# Altium footprint library LibreriaComp.PcbLib: 43 footprints (part 3 of 3)
Each footprint in its own frame and in the unit in brackets; x right, y up, seen from the top. Pads: shape width x height; smd on the part's side, far side on the other; paste and mask are expansions set on the pad; w line width, h text height; cw(c..) or ccw(c..) is an arc to the next point about the centre after c.
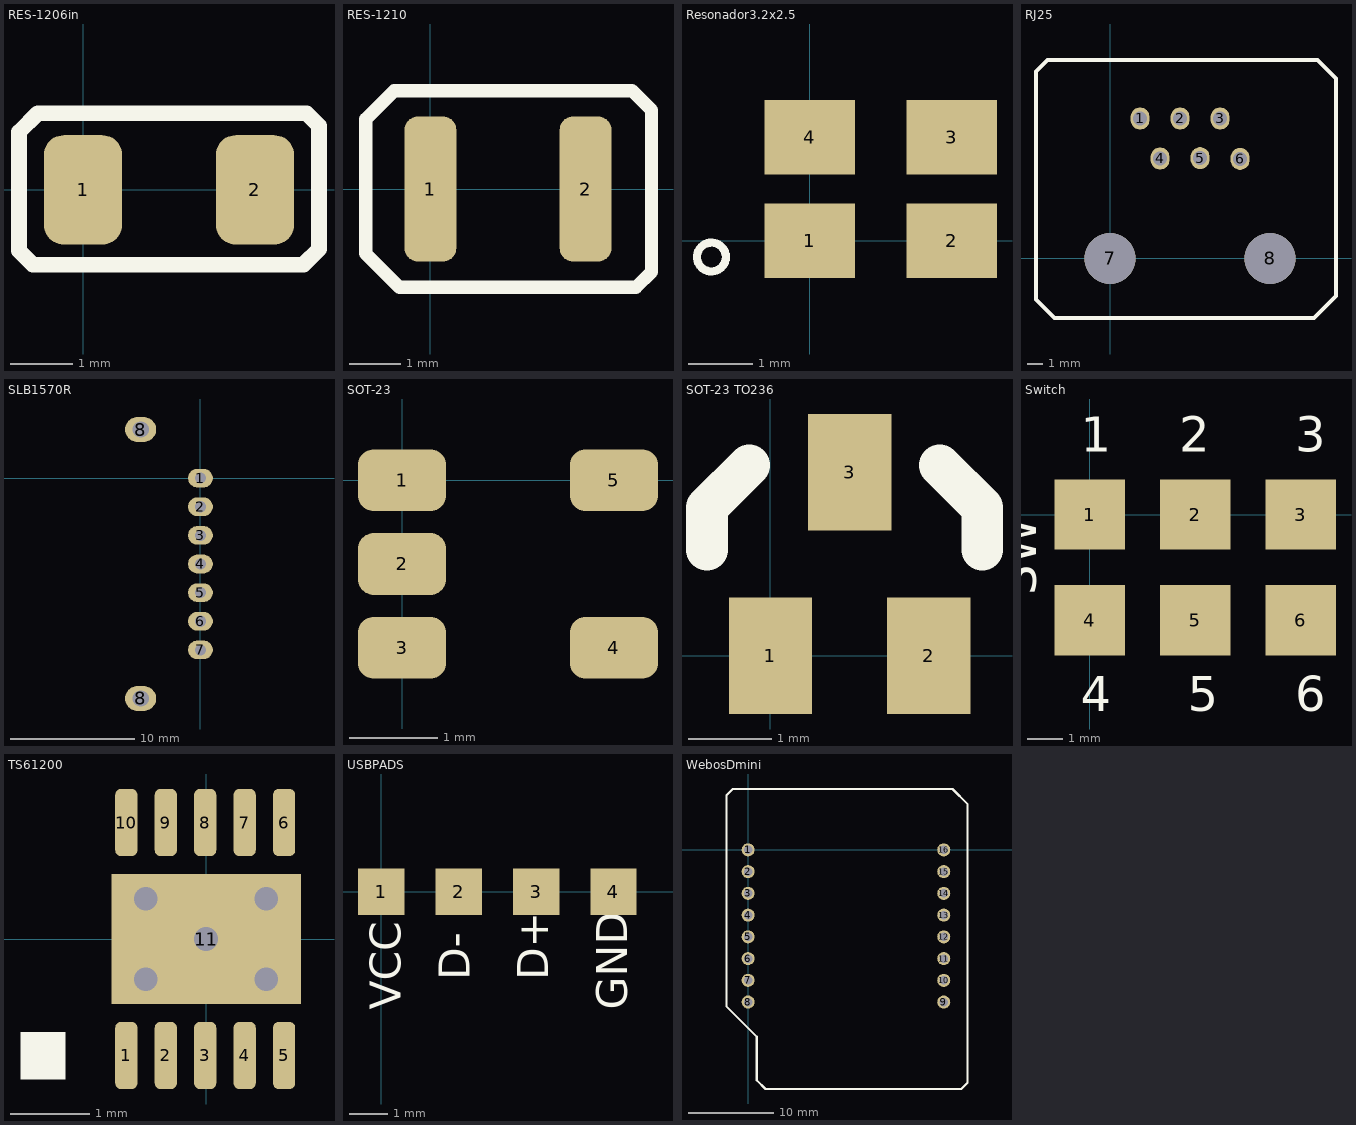
[diagram p2: the footprints below, top view; thin cyan lines are the x and y axes]

## RES-1206in [mm]
pads (2):
  rrect50% 1.25x1.75 smd: 1(0,0) 2(2.75,0)
Top Overlay:
  lines w0.254: 2.85,-1.2 3.525,-1.2 3.775,-0.95 3.775,1.025 3.575,1.225 3.175,1.225 -0.725,1.225 -1.025,0.925 -1.025,-0.975 -0.8,-1.2 2.975,-1.2

## RES-1210 [mm]
pads (2):
  rrect50% 1x2.8 smd: 1(0,0) 2(3,0)
Top Overlay:
  lines w0.254: -1.25,-1.25 -1.25,1.35 -0.7,1.9 3.9,1.9 4.275,1.525 4.275,-1.6 3.975,-1.9 3.3,-1.9 2.275,-1.9 -0.6,-1.9 -1.25,-1.25

## Resonador3.2x2.5 [mm]
pads (4):
  rect 1.4x1.15 smd: 1(0,0) 2(2.2,0) 3(2.2,1.6) 4(0,1.6)
Top Overlay:
  circle w0.127: c-1.524,-0.254 r0.224

## RJ25 [mm]
pads (8):
  oval 1.2x1.4 hole 0.89: 1(1.91,8.89) 2(4.45,8.89) 3(6.99,8.89) 4(3.18,6.35) 5(5.72,6.375) 6(8.26,6.325)
  round 3.25 hole 3.25: 7(0,0) 8(10.16,0)
Top Overlay:
  lines w0.254: -4.7,-2.6 -4.7,11.875 -3.975,12.6 13.175,12.6 14.35,11.425 14.35,-2.375 13.85,-2.875 12.95,-3.775 -3.525,-3.775 -4.7,-2.6

## SLB1570R [mm] "3Pines"
pads (9):
  oval 2x1.5 hole 0.9: 1(0,0) 2(0,-2.3) 3(0,-4.6) 4(0,-6.9) 5(0,-9.2) 6(0,-11.5) 7(0,-13.8)
  oval 2.5x2 hole 1.3: 8(-4.8,-17.7) 8(-4.8,3.9)

## SOT-23 [mm]
pads (5):
  rrect50% 1x0.7 smd: 1(0,0) 2(0,-0.95) 3(0,-1.9) 4(2.4,-1.9) 5(2.4,0)

## SOT-23 TO236 [mm]
pads (3):
  rect 1x1.4 smd: 1(0,0) 2(1.9,0) 3(0.95,2.2)
Top Overlay:
  lines w0.5: -0.762,1.27 -0.762,1.778 -0.254,2.286 ; 2.032,2.286 2.54,1.778 2.54,1.27

## Switch [mm]
pads (6):
  rect 2x2 smd: 1(0,0) 2(3,0) 3(6,0) 4(0,-3) 5(3,-3) 6(6,-3)
Top Overlay:
  text "1" at -0.254,1.778 h1
  text "2" at 2.54,1.778 h1
  text "3" at 5.842,1.778 h1
  text "4" at -0.254,-5.588 h1
  text "5" at 2.794,-5.588 h1
  text "6" at 5.842,-5.588 h1
  text "SW" at -1.524,-2.286 h1

## TS61200 [mm]
pads (11):
  rrect50% 0.28x0.85 smd: 1(-1.01,-1.475) 2(-0.51,-1.475) 3(-0.01,-1.475) 4(0.49,-1.475) 5(0.99,-1.475) 6(0.99,1.475) 7(0.49,1.475) 8(-0.01,1.475) 9(-0.51,1.475) 10(-1.01,1.475)
  rect 2.4x1.65 smd: 11(0,0)
via -0.762,-0.508 diameter 0.3 hole 0.3
via -0.762,0.508 diameter 0.3 hole 0.3
via 0.762,0.508 diameter 0.3 hole 0.3
via 0.762,-0.508 diameter 0.3 hole 0.3
via 0,0 diameter 0.3 hole 0.3
Top Overlay:
  rectangle: -2.353,-1.778 -1.778,-1.178

## USBPADS [mm]
pads (4):
  rect 1.2x1.2 smd: 1(0,0) 2(2,0) 3(4,0) 4(6,0)
Top Overlay:
  text "GND" at 6.35,-3.048 h0.8
  text "D+" at 4.318,-2.286 h0.8
  text "D-" at 2.286,-2.286 h0.8
  text "VCC" at 0.508,-3.048 h0.8

## WebosDmini [mil]
pads (16):
  round 60 hole 39.37: 1(0,0) 2(0,-100) 3(0,-200) 4(0,-300) 5(0,-400) 6(0,-500) 7(0,-600) 8(0,-700) 9(900,-700) 10(900,-600) 11(900,-500) 12(900,-400) 13(900,-300) 14(900,-200) 15(900,-100) 16(900,0)
Top Overlay:
  lines w10: -100,140 -100,250 -70,280 940,280 1010,210 1010,-1070 980,-1100 80,-1100 40,-1060 40,-860 -100,-720 -100,150